# EAGLE library part 687134182122 (library Eagle_FPC_CONNECTOR_AND_FFC_CAB (rev18c))
CONFPCI - 0.5 MM PITCH HORIZONTAL DUAL CONTACT, BACK FLIP ACTUATOR=>Code : ConFPC Characteristics INSULATOR: LCP FLAMABILITY RATING: UL94-V0 COLOUR: IVORY CONTACT MATERIAL: PHOSPHOR BRONZE CONTACT PLATING: 80 μ’’ MAT TIN OVER 50 μ’’ NICKEL CONTACT TYPE: STAMPED TAB MATERIAL: BRASS TAB PLATING: 80 μ’’ MAT TIN OVER 50 μ’’ NICKEL TAB TYPE: STAMPED ACTUATOR MATERIAL: PA9T ACTUATOR COLOUR: BLACK QUALITY CLASS: 20 MATING CYCLES PITCH: 0.50 MM PACKAGING:TAPE AND REEL COMPLIANCE: ROHS AND HALOGEN FREE OPERATING TEMPERATURE: -40°C UP TO +105°C ELECTRICAL CURRENT RATING: 0.5A WORKING VOLTAGE: 50 VAC WITHSTANDING VOLTAGE: 0.25 KVAC/min CONTATC RESISTANCE: 30 mOHM INSULATION RESISTANCE: >500 MΩ <http://katalog.we-online.de/media/images/v2/Family_WR-FPC_687186182122.jpg> 2016 (C) Wurth Elektronik
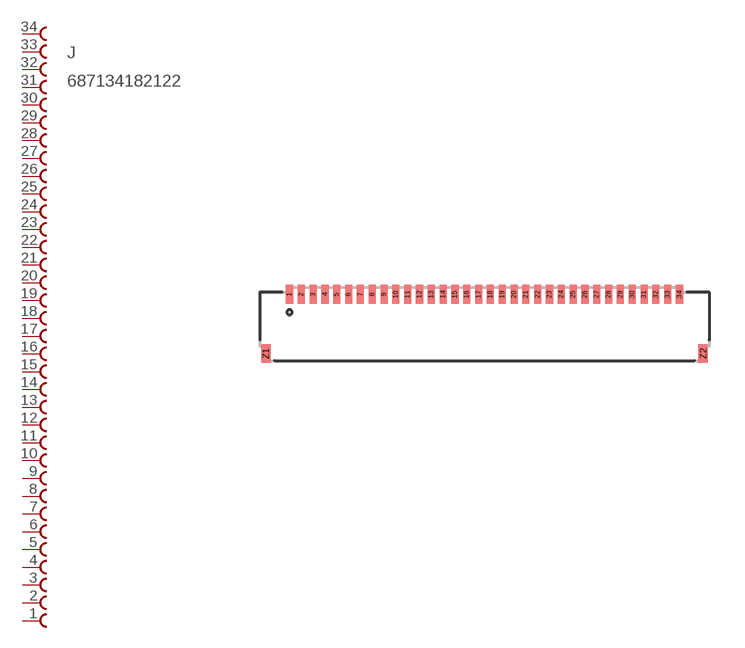
[diagram p142: symbol with the pads of 687134182122; footprint 687134182122]

Designator prefix J

## 687134182122  [687134182122]
1  34  pas
2  33  pas
3  32  pas
4  31  pas
5  30  pas
6  29  pas
7  28  pas
8  27  pas
9  26  pas
10  25  pas
11  24  pas
12  23  pas
13  22  pas
14  21  pas
15  20  pas
16  19  pas
17  18  pas
18  17  pas
19  16  pas
20  15  pas
21  14  pas
22  13  pas
23  12  pas
24  11  pas
25  10  pas
26  9  pas
27  8  pas
28  7  pas
29  6  pas
30  5  pas
31  4  pas
32  3  pas
33  2  pas
34  1  pas

## Footprint 687134182122 (pad centres in mm)
smd 0.3 x 0.8: 1 -8.25,1.25; 2 -7.75,1.25; 3 -7.25,1.25; 4 -6.75,1.25; 5 -6.25,1.25; 6 -5.75,1.25; 7 -5.25,1.25; 8 -4.75,1.25; 9 -4.25,1.25; 10 -3.75,1.25; 11 -3.25,1.25; 12 -2.75,1.25; 13 -2.25,1.25; 14 -1.75,1.25; 15 -1.25,1.25; 16 -0.75,1.25; 17 -0.25,1.25; 18 0.25,1.25; 19 0.75,1.25; 20 1.25,1.25; 21 1.75,1.25; 22 2.25,1.25; 23 2.75,1.25; 24 3.25,1.25; 25 3.75,1.25; 26 4.25,1.25; 27 4.75,1.25; 28 5.25,1.25; 29 5.75,1.25; 30 6.25,1.25; 31 6.75,1.25; 32 7.25,1.25; 33 7.75,1.25; 34 8.25,1.25
smd 0.4 x 0.8: Z1 -9.25,-1.25; Z2 9.25,-1.25